# Altium schematic symbol library MeanWell.SchLib: 1 symbol
Pins are listed as number, name and electrical type; pins without a type are passive.

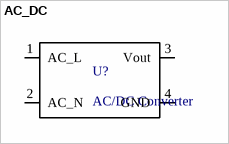
[diagram p0: symbol AC_DC]

## AC_DC
designator U?, comment AC/DC Converter
pins: 1 AC_L, 2 AC_N, 3 Vout, 4 GND